# EAGLE library part AK130/13 (library PTR_AK130)
ANSCHLUSSKLEMME AK130 (13POLIG)
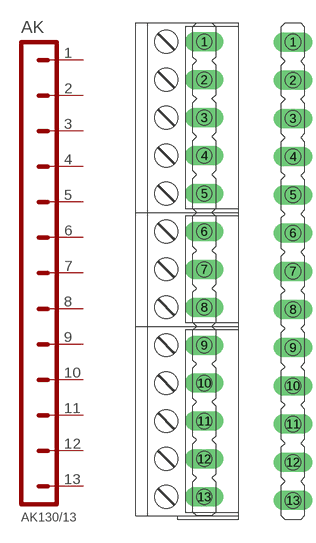
[diagram p7: symbol with the pads of AK13; footprints AK13, STL13]

Designator prefix AK

## AK130/13  [AK13]
1  P$1
2  P$2
3  P$3
4  P$4
5  P$5
6  P$6
7  P$7
8  P$8
9  P$9
10  P$10
11  P$11
12  P$12
13  P$13

## AK130/13_STL  [STL13]
Pads as for AK13

## Footprint AK13 (pad centres in mm)
AK130 (13POLIG) 1x AK130/3-5.0-GRAU 2x AK130/5-5.0-GRAU STL130/24-5.0-V-SCHWARZ
drill 1.5 pad 2.54 long: 1 0,30; 2 0,25; 3 0,20; 4 0,15; 5 0,10; 6 0,5; 7 0,0; 8 0,-5; 9 0,-10; 10 0,-15; 11 0,-20; 12 0,-25; 13 0,-30

## Footprint STL13 (pad centres in mm)
STL130 (13POLIG) STL130/24-5.0-V-SCHWARZ
drill 1.5 pad 2.54 long: 1 0,30; 2 0,25; 3 0,20; 4 0,15; 5 0,10; 6 0,5; 7 0,0; 8 0,-5; 9 0,-10; 10 0,-15; 11 0,-20; 12 0,-25; 13 0,-30